# Altium footprint library MyPCBLIB.PCBLIB: 11 footprints
Each footprint in its own frame and in the unit in brackets; x right, y up, seen from the top. Pads: shape width x height; smd on the part's side, far side on the other; paste and mask are expansions set on the pad; w line width, h text height; cw(c..) or ccw(c..) is an arc to the next point about the centre after c.
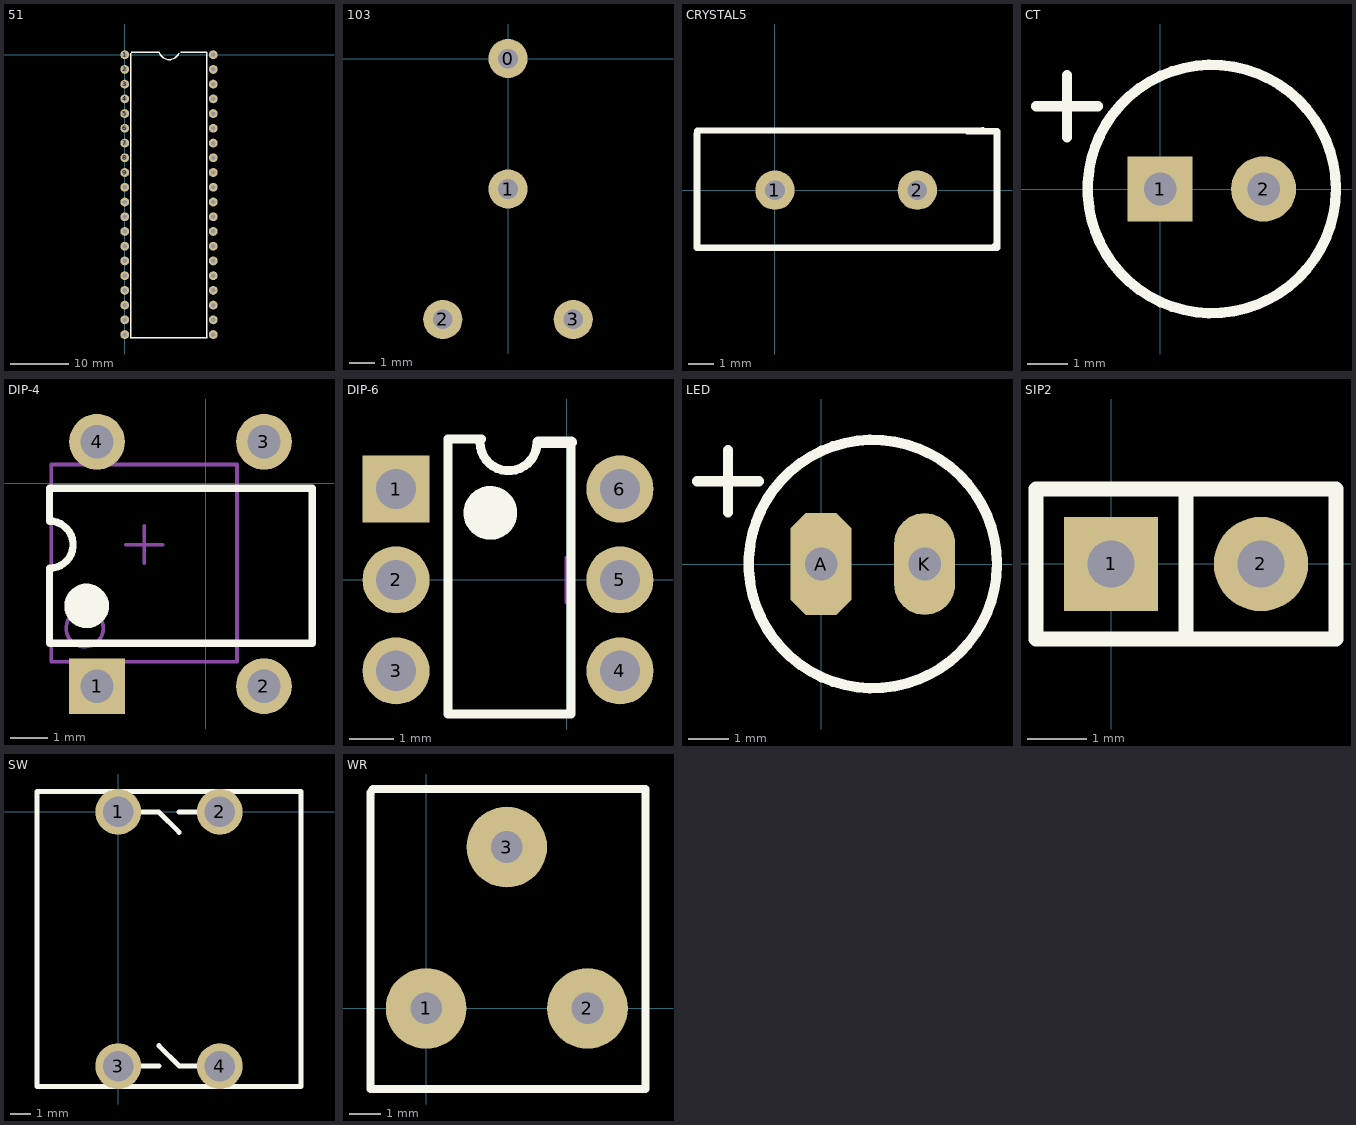
[diagram p0: the footprints below, top view; thin cyan lines are the x and y axes]

## 51 [mil]
pads (40):
  round 60 hole 30: 1(0,0) 2(0,-100) 3(0,-200) 4(0,-300) 5(0,-400) 6(0,-500) 7(0,-600) 8(0,-700) 9(0,-800) 10(0,-900) 11(0,-1000) 12(0,-1100) 13(0,-1200) 14(0,-1300) 15(0,-1400) 16(0,-1500) 17(0,-1600) 18(0,-1700) 19(0,-1800) 20(0,-1900) 21(600,-1900) 22(600,-1800) 23(600,-1700) 24(600,-1600) 25(600,-1500) 26(600,-1400) 27(600,-1300) 28(600,-1200) 29(600,-1100) 30(600,-1000) 31(600,-900) 32(600,-800) 33(600,-700) 34(600,-600) 35(600,-500) 36(600,-400) 37(600,-300) 38(600,-200) 39(600,-100) 40(600,0)
TopOverlay:
  lines w10: 39,11 39,-1924 42,-1921 559,-1921 556,-1918 556,17 379,17 ; 45,17 235,17 ccw(c302.14,36.42) 366,8

## 103 [mil]
pads (4):
  round 60 hole 30: 0(0,0) 1(0,-200) 2(-100,-400) 3(100,-400)

## CRYSTAL5 [mil]
pads (2):
  round 60 hole 30: 1(0,0) 2(216.54,0)
TopOverlay:
  lines w10: -118.61,85.55 -118.61,-87.45 337.75,-87.45 ; -118.11,90.55 316.02,90.92 ; 292.17,89.72 337.75,89.72 337.75,-87.45 ; 334.65,-84.35 337.75,-87.45

## CT [mm]
pads (2):
  rect 1.6x1.6 hole 0.8: 1(0,0)
  round 1.6 hole 0.8: 2(2.54,0)
TopOverlay:
  circle w0.254: c1.27,0 r3.048
  lines w0.254: -3.048,2.032 -1.524,2.032 ; -2.286,1.27 -2.286,2.794

## DIP-4 [mm] "DIP; 4 Leads; Row Spacing 7.62 mm; Pitch 2.54 mm"
height 5.6
pads (4):
  rect 1.5x1.5 hole 0.9: 1(-2.921,-5.461)
  round 1.5 hole 0.9: 2(1.575,-5.461) 3(1.575,1.118) 4(-2.921,1.118)
TopOverlay:
  circle w0.6: c-3.201,-3.301 r0.3
  lines w0.2: -4.201,-4.301 2.87,-4.301 2.87,-0.127 -4.201,-0.127 -4.201,-1.016 cw(c-4.201,-1.651) -4.201,-2.286 -4.201,-4.301
Mechanical13:
  circle w0.1: c-3.251,-3.901 r0.5
  lines w0.1: -4.151,-4.801 -4.151,0.508 0.849,0.508 0.849,-4.801 -4.151,-4.801
Mechanical15:
  lines w0.1: -2.151,-1.651 -1.151,-1.651 ; -1.651,-2.151 -1.651,-1.151
3D body: height 5.6, standoff 0, extent -4.151,-4.801 0.849,0.483

## DIP-6 [mm] "DIP; 6 Leads; Row Spacing 7.62 mm; Pitch 2.54 mm"
height 5.46
pads (6):
  rect 1.5x1.5 hole 0.9: 1(-3.81,2.032)
  round 1.5 hole 0.9: 2(-3.81,0) 3(-3.81,-2.032) 4(1.194,-2.032) 5(1.194,0) 6(1.194,2.032)
TopOverlay:
  circle w0.6: c-1.702,1.499 r0.3
  lines w0.2: -1.93,3.073 ccw(c-1.295,3.073) -0.66,3.073 ; -1.905,3.15 -2.65,3.15 -2.65,-2.997 0.102,-2.997 0.102,3.073
  lines w0.254: -0.635,3.073 0.102,3.073
Mechanical15:
  lines w0.1: 0,-0.5 0,0.5

## key [mil] "mykey"

## LED [mm]
pads (2):
  oct 1.5x2.5 hole 0.8: A(0,0)
  oval 1.5x2.5 hole 0.8: K(2.54,0)
TopOverlay:
  circle w0.254: c1.27,0 r3.048
  lines w0.254: -3.048,2.032 -1.524,2.032 ; -2.286,1.27 -2.286,2.794

## SIP2 [mm]
pads (2):
  rect 1.6x1.6 hole 0.8: 1(0,0)
  round 1.6 hole 0.8: 2(2.54,0)
TopOverlay:
  lines w0.254: 1.27,-1.27 1.27,1.27 ; -1.27,-1.27 -1.27,1.27 3.81,1.27 3.81,-1.27 -1.27,-1.27

## SW [mil]
pads (4):
  round 90 hole 60: 1(0,0) 2(200,0) 3(0,-500) 4(200,-500)
TopOverlay:
  lines w10: 45,-500 80,-500 ; 45,0 80,0 120,-40 ; 80,-460 120,-500 155,-500 ; 120,0 155,0 ; -160,-540 -160,40 360,40 360,-540 -160,-540

## WR [mm]
pads (3):
  round 2.54 hole 1: 1(0,0) 2(5.08,0) 3(2.54,5.08)
TopOverlay:
  lines w0.254: -1.753,-2.54 0.489,-2.54 4.82,-2.54 6.909,-2.54 6.909,0.203 6.909,6.909 -1.673,6.909 -1.753,6.792 -1.753,-2.54